# Altium schematic symbol library Connections.SchLib: 10 symbols
Pins are listed as number, name and electrical type; pins without a type are passive.

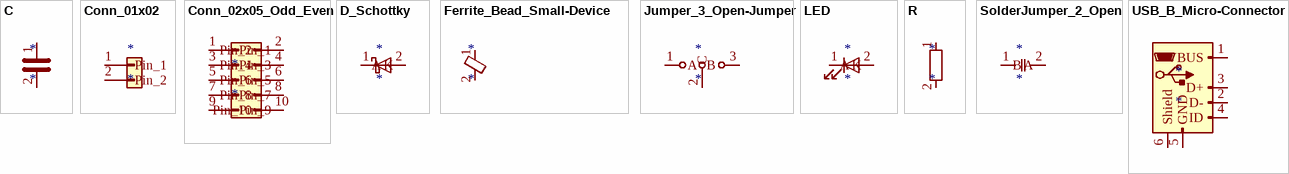
[diagram p0: symbols C to USB_B_Micro-Connector]

## C
designator *
pins: 1, 2

## Conn_01x02
designator *
pins: 1 Pin_1, 2 Pin_2

## Conn_02x05_Odd_Even
designator *
pins: 1 Pin_1, 2 Pin_2, 3 Pin_3, 4 Pin_4, 5 Pin_5, 6 Pin_6, 7 Pin_7, 8 Pin_8, 9 Pin_9, 10 Pin_10

## D_Schottky
designator *
pins: 1 K, 2 A

## Ferrite_Bead_Small-Device
designator *
pins: 1, 2

## Jumper_3_Open-Jumper
designator *
pins: 1 A, 2 C, 3 B

## LED
designator *
pins: 1 K, 2 A

## R
designator *
pins: 1, 2

## SolderJumper_2_Open
designator *
pins: 1 A, 2 B

## USB_B_Micro-Connector
designator *
pins: 1 VBUS, 2 D-, 3 D+, 4 ID, 5 GND, 6 Shield